# Altium schematic symbol library kmilo17pet-LT_OpAmp_LT2000.SchLib: 1710 symbols (part 6 of 75)
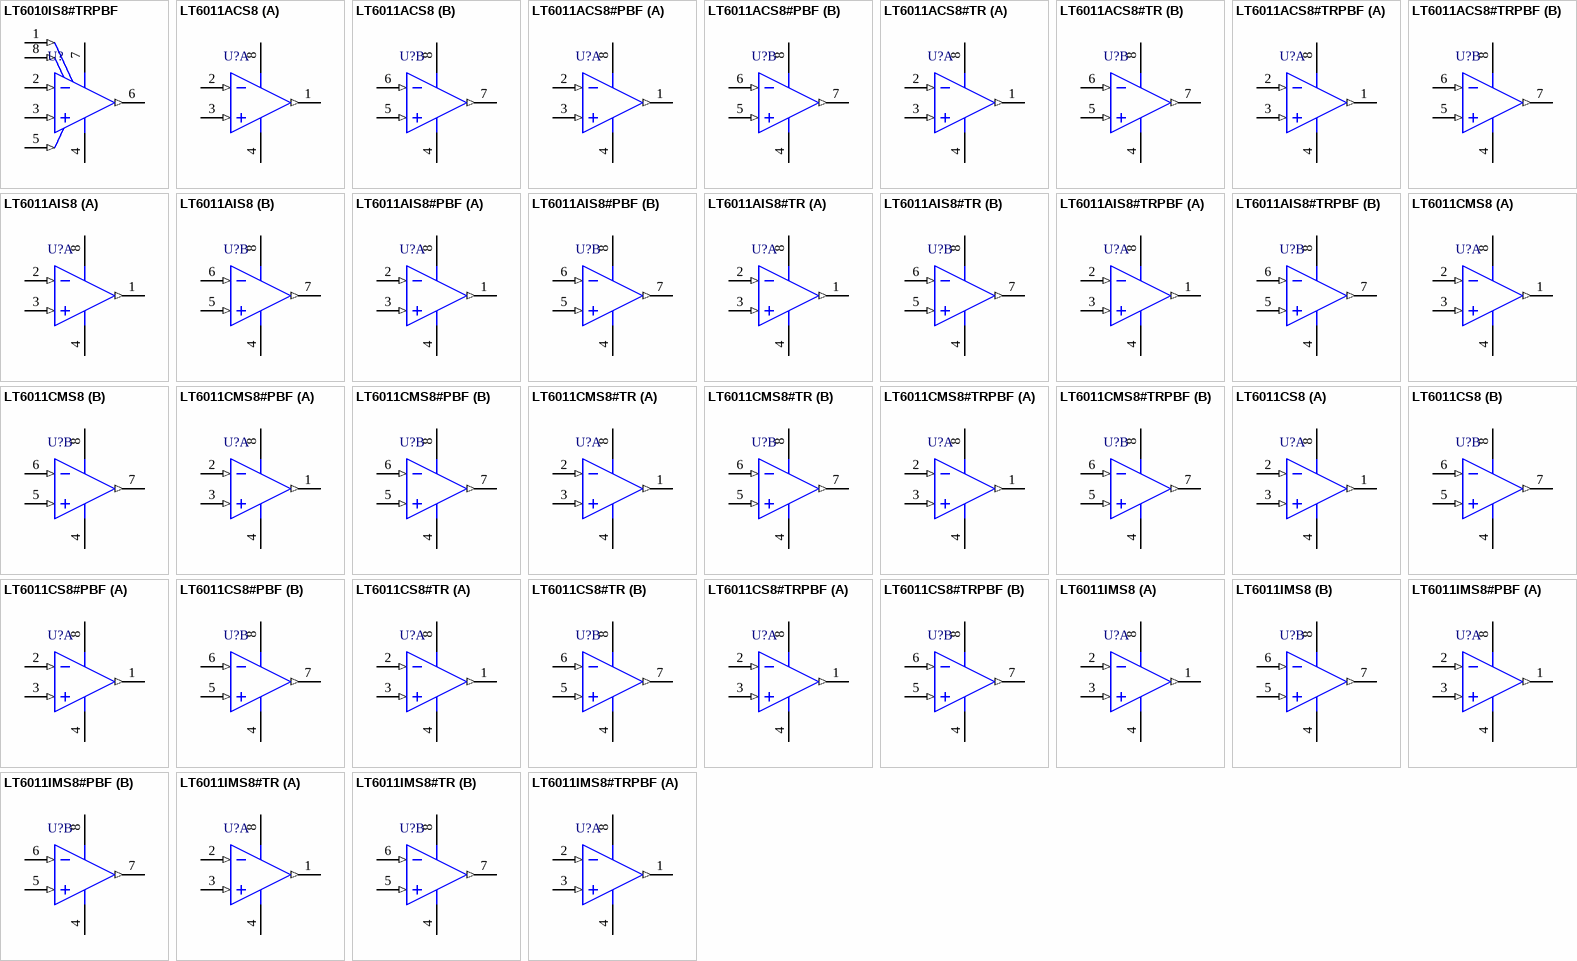
[diagram p85: symbols LT6010IS8#TRPBF to LT6011IMS8#TRPBF]

## LT6011ACS8#TR
designator U?
Dual Channel, Micropower, Precision Operational Amplifier, RRO, 0.33 MHz Typical GBW, 0.09 V/us Typical SR, 2.4 to 40 V, 8-Pin SOIC (S8-8), Commercial, Reel; Linear Technology Part Number: LT6011; Manufacturer: Linear Technology; PartNumber: LT6011ACS8#TR; Channels (#): 2; GBW (MHz) Typical: 0.33; Is (mA) Typical: 0.135; SR (V/us) Typical: 0.09; Vos (mV) Guaranteed: 0.06; Vos (mV) Typical: 0.02; Vs Max (V): 40; Vs Min (V): 2.4; DatasheetVersion: Rev. C; PackageVersion: Rev G; PackageReference: LT-S8-8; PackageDescription: 8-Pin Plastic Small Outline, Body 4.9 x 3.9 mm, Pitch 1.27 mm; Supplier 1: Digi-Key; Supplier Part Number 1: LT6011ACS8#TR-ND; Packing: Reel; Type: VFB; Mounting Technology: Surface Mount; ComponentLink1Description: Manufacturer URL; ComponentLink1URL: http://www.linear.com/; ComponentLink2Description: Datasheet; ComponentLink2URL: http://cds.linear.com/docs/en/datasheet/60112fc.pdf; ComponentLink3Description: Package Specification; ComponentLink3URL: http://cds.linear.com/docs/en/packaging/05081610_G_SO8.pdf
footprint LT-S8-8_N (SOIC, 8-Leads, Body 4.9x3.9mm, Pitch 1.27mm, IPC Medium Density)
footprint LT-S8-8_L (SOIC, 8-Leads, Body 4.9x3.9mm, Pitch 1.27mm, IPC High Density)
footprint LT-S8-8_M (SOIC, 8-Leads, Body 4.9x3.9mm, Pitch 1.27mm, IPC Low Density)
pins on every part: 4 V- (power), 8 V+ (power)
part A pins: 1 OUT A (out), 2 -IN A (in), 3 +IN A (in)
part B pins: 5 +IN B (in), 6 -IN B (in), 7 OUT B (out)

## LT6011ACS8#TRPBF
designator U?
Dual Channel, Micropower, Precision Operational Amplifier, RRO, 0.33 MHz Typical GBW, 0.09 V/us Typical SR, 2.4 to 40 V, 8-Pin SOIC (S8-8), Commercial, Pb-Free, Reel; Linear Technology Part Number: LT6011; Manufacturer: Linear Technology; PartNumber: LT6011ACS8#TRPBF; Channels (#): 2; GBW (MHz) Typical: 0.33; Is (mA) Typical: 0.135; SR (V/us) Typical: 0.09; Vos (mV) Guaranteed: 0.06; Vos (mV) Typical: 0.02; Vs Max (V): 40; Vs Min (V): 2.4; DatasheetVersion: Rev. C; PackageVersion: Rev G; PackageReference: LT-S8-8; PackageDescription: 8-Pin Plastic Small Outline, Body 4.9 x 3.9 mm, Pitch 1.27 mm; Supplier 1: Digi-Key; Supplier Part Number 1: LT6011ACS8#TRPBF-ND; Packing: Reel; RoHS: Pb-Free; Type: VFB; Mounting Technology: Surface Mount; ComponentLink1Description: Manufacturer URL; ComponentLink1URL: http://www.linear.com/; ComponentLink2Description: Datasheet; ComponentLink2URL: http://cds.linear.com/docs/en/datasheet/60112fc.pdf; ComponentLink3Description: Package Specification; ComponentLink3URL: http://cds.linear.com/docs/en/packaging/05081610_G_SO8.pdf
footprint LT-S8-8_N (SOIC, 8-Leads, Body 4.9x3.9mm, Pitch 1.27mm, IPC Medium Density)
footprint LT-S8-8_L (SOIC, 8-Leads, Body 4.9x3.9mm, Pitch 1.27mm, IPC High Density)
footprint LT-S8-8_M (SOIC, 8-Leads, Body 4.9x3.9mm, Pitch 1.27mm, IPC Low Density)
pins on every part: 4 V- (power), 8 V+ (power)
part A pins: 1 OUT A (out), 2 -IN A (in), 3 +IN A (in)
part B pins: 5 +IN B (in), 6 -IN B (in), 7 OUT B (out)

## LT6011AIS8
designator U?
Dual Channel, Micropower, Precision Operational Amplifier, RRO, 0.33 MHz Typical GBW, 0.09 V/us Typical SR, 2.4 to 40 V, 8-Pin SOIC (S8-8), Industrial; Linear Technology Part Number: LT6011; Manufacturer: Linear Technology; PartNumber: LT6011AIS8; Channels (#): 2; GBW (MHz) Typical: 0.33; Is (mA) Typical: 0.135; SR (V/us) Typical: 0.09; Vos (mV) Guaranteed: 0.06; Vos (mV) Typical: 0.02; Vs Max (V): 40; Vs Min (V): 2.4; DatasheetVersion: Rev. C; PackageVersion: Rev G; PackageReference: LT-S8-8; PackageDescription: 8-Pin Plastic Small Outline, Body 4.9 x 3.9 mm, Pitch 1.27 mm; Supplier 1: Digi-Key; Supplier Part Number 1: LT6011AIS8-ND; Type: VFB; Mounting Technology: Surface Mount; ComponentLink1Description: Manufacturer URL; ComponentLink1URL: http://www.linear.com/; ComponentLink2Description: Datasheet; ComponentLink2URL: http://cds.linear.com/docs/en/datasheet/60112fc.pdf; ComponentLink3Description: Package Specification; ComponentLink3URL: http://cds.linear.com/docs/en/packaging/05081610_G_SO8.pdf
footprint LT-S8-8_N (SOIC, 8-Leads, Body 4.9x3.9mm, Pitch 1.27mm, IPC Medium Density)
footprint LT-S8-8_L (SOIC, 8-Leads, Body 4.9x3.9mm, Pitch 1.27mm, IPC High Density)
footprint LT-S8-8_M (SOIC, 8-Leads, Body 4.9x3.9mm, Pitch 1.27mm, IPC Low Density)
pins on every part: 4 V- (power), 8 V+ (power)
part A pins: 1 OUT A (out), 2 -IN A (in), 3 +IN A (in)
part B pins: 5 +IN B (in), 6 -IN B (in), 7 OUT B (out)

## LT6011AIS8#PBF
designator U?
Dual Channel, Micropower, Precision Operational Amplifier, RRO, 0.33 MHz Typical GBW, 0.09 V/us Typical SR, 2.4 to 40 V, 8-Pin SOIC (S8-8), Industrial, Pb-Free; Linear Technology Part Number: LT6011; Manufacturer: Linear Technology; PartNumber: LT6011AIS8#PBF; Channels (#): 2; GBW (MHz) Typical: 0.33; Is (mA) Typical: 0.135; SR (V/us) Typical: 0.09; Vos (mV) Guaranteed: 0.06; Vos (mV) Typical: 0.02; Vs Max (V): 40; Vs Min (V): 2.4; DatasheetVersion: Rev. C; PackageVersion: Rev G; PackageReference: LT-S8-8; PackageDescription: 8-Pin Plastic Small Outline, Body 4.9 x 3.9 mm, Pitch 1.27 mm; Supplier 1: Digi-Key; Supplier Part Number 1: LT6011AIS8#PBF-ND; RoHS: Pb-Free; Type: VFB; Mounting Technology: Surface Mount; ComponentLink1Description: Manufacturer URL; ComponentLink1URL: http://www.linear.com/; ComponentLink2Description: Datasheet; ComponentLink2URL: http://cds.linear.com/docs/en/datasheet/60112fc.pdf; ComponentLink3Description: Package Specification; ComponentLink3URL: http://cds.linear.com/docs/en/packaging/05081610_G_SO8.pdf
footprint LT-S8-8_N (SOIC, 8-Leads, Body 4.9x3.9mm, Pitch 1.27mm, IPC Medium Density)
footprint LT-S8-8_L (SOIC, 8-Leads, Body 4.9x3.9mm, Pitch 1.27mm, IPC High Density)
footprint LT-S8-8_M (SOIC, 8-Leads, Body 4.9x3.9mm, Pitch 1.27mm, IPC Low Density)
pins on every part: 4 V- (power), 8 V+ (power)
part A pins: 1 OUT A (out), 2 -IN A (in), 3 +IN A (in)
part B pins: 5 +IN B (in), 6 -IN B (in), 7 OUT B (out)

## LT6011AIS8#TR
designator U?
Dual Channel, Micropower, Precision Operational Amplifier, RRO, 0.33 MHz Typical GBW, 0.09 V/us Typical SR, 2.4 to 40 V, 8-Pin SOIC (S8-8), Industrial, Reel; Linear Technology Part Number: LT6011; Manufacturer: Linear Technology; PartNumber: LT6011AIS8#TR; Channels (#): 2; GBW (MHz) Typical: 0.33; Is (mA) Typical: 0.135; SR (V/us) Typical: 0.09; Vos (mV) Guaranteed: 0.06; Vos (mV) Typical: 0.02; Vs Max (V): 40; Vs Min (V): 2.4; DatasheetVersion: Rev. C; PackageVersion: Rev G; PackageReference: LT-S8-8; PackageDescription: 8-Pin Plastic Small Outline, Body 4.9 x 3.9 mm, Pitch 1.27 mm; Supplier 1: Digi-Key; Supplier Part Number 1: LT6011AIS8#TR-ND; Packing: Reel; Type: VFB; Mounting Technology: Surface Mount; ComponentLink1Description: Manufacturer URL; ComponentLink1URL: http://www.linear.com/; ComponentLink2Description: Datasheet; ComponentLink2URL: http://cds.linear.com/docs/en/datasheet/60112fc.pdf; ComponentLink3Description: Package Specification; ComponentLink3URL: http://cds.linear.com/docs/en/packaging/05081610_G_SO8.pdf
footprint LT-S8-8_N (SOIC, 8-Leads, Body 4.9x3.9mm, Pitch 1.27mm, IPC Medium Density)
footprint LT-S8-8_L (SOIC, 8-Leads, Body 4.9x3.9mm, Pitch 1.27mm, IPC High Density)
footprint LT-S8-8_M (SOIC, 8-Leads, Body 4.9x3.9mm, Pitch 1.27mm, IPC Low Density)
pins on every part: 4 V- (power), 8 V+ (power)
part A pins: 1 OUT A (out), 2 -IN A (in), 3 +IN A (in)
part B pins: 5 +IN B (in), 6 -IN B (in), 7 OUT B (out)

## LT6011AIS8#TRPBF
designator U?
Dual Channel, Micropower, Precision Operational Amplifier, RRO, 0.33 MHz Typical GBW, 0.09 V/us Typical SR, 2.4 to 40 V, 8-Pin SOIC (S8-8), Industrial, Pb-Free, Reel; Linear Technology Part Number: LT6011; Manufacturer: Linear Technology; PartNumber: LT6011AIS8#TRPBF; Channels (#): 2; GBW (MHz) Typical: 0.33; Is (mA) Typical: 0.135; SR (V/us) Typical: 0.09; Vos (mV) Guaranteed: 0.06; Vos (mV) Typical: 0.02; Vs Max (V): 40; Vs Min (V): 2.4; DatasheetVersion: Rev. C; PackageVersion: Rev G; PackageReference: LT-S8-8; PackageDescription: 8-Pin Plastic Small Outline, Body 4.9 x 3.9 mm, Pitch 1.27 mm; Supplier 1: Digi-Key; Supplier Part Number 1: LT6011AIS8#TRPBF-ND; Packing: Reel; RoHS: Pb-Free; Type: VFB; Mounting Technology: Surface Mount; ComponentLink1Description: Manufacturer URL; ComponentLink1URL: http://www.linear.com/; ComponentLink2Description: Datasheet; ComponentLink2URL: http://cds.linear.com/docs/en/datasheet/60112fc.pdf; ComponentLink3Description: Package Specification; ComponentLink3URL: http://cds.linear.com/docs/en/packaging/05081610_G_SO8.pdf
footprint LT-S8-8_N (SOIC, 8-Leads, Body 4.9x3.9mm, Pitch 1.27mm, IPC Medium Density)
footprint LT-S8-8_L (SOIC, 8-Leads, Body 4.9x3.9mm, Pitch 1.27mm, IPC High Density)
footprint LT-S8-8_M (SOIC, 8-Leads, Body 4.9x3.9mm, Pitch 1.27mm, IPC Low Density)
pins on every part: 4 V- (power), 8 V+ (power)
part A pins: 1 OUT A (out), 2 -IN A (in), 3 +IN A (in)
part B pins: 5 +IN B (in), 6 -IN B (in), 7 OUT B (out)

## LT6011CMS8
designator U?
Dual Channel, Micropower, Precision Operational Amplifier, RRO, 0.33 MHz Typical GBW, 0.09 V/us Typical SR, 2.4 to 40 V, 8-Pin SOP (MS8-8), Commercial; Linear Technology Part Number: LT6011; Manufacturer: Linear Technology; PartNumber: LT6011CMS8; Channels (#): 2; GBW (MHz) Typical: 0.33; Is (mA) Typical: 0.135; SR (V/us) Typical: 0.09; Vos (mV) Guaranteed: 0.06; Vos (mV) Typical: 0.02; Vs Max (V): 40; Vs Min (V): 2.4; DatasheetVersion: Rev. C; PackageVersion: Rev G; PackageReference: LT-MS8-8; PackageDescription: 8-Lead Plastic Small Outline, Body 3.9 x 4.9 mm, Pitch 1.27 mm; Supplier 1: Newark; Supplier Part Number 1: 57M8996; Type: VFB; Mounting Technology: Surface Mount; ComponentLink1Description: Manufacturer URL; ComponentLink1URL: http://www.linear.com/; ComponentLink2Description: Datasheet; ComponentLink2URL: http://cds.linear.com/docs/en/datasheet/60112fc.pdf; ComponentLink3Description: Package Specification; ComponentLink3URL: http://cds.linear.com/docs/en/packaging/05081610_G_SO8.pdf
footprint LT-MS8-8_N (SOP, 8-Leads, Body 3x3mm, Pitch 0.65mm, IPC Medium Density)
footprint LT-MS8-8_L (SOP, 8-Leads, Body 3x3mm, Pitch 0.65mm, IPC High Density)
footprint LT-MS8-8_M (SOP, 8-Leads, Body 3x3mm, Pitch 0.65mm, IPC Low Density)
pins on every part: 4 V- (power), 8 V+ (power)
part A pins: 1 OUT A (out), 2 -IN A (in), 3 +IN A (in)
part B pins: 5 +IN B (in), 6 -IN B (in), 7 OUT B (out)

## LT6011CMS8#PBF
designator U?
Dual Channel, Micropower, Precision Operational Amplifier, RRO, 0.33 MHz Typical GBW, 0.09 V/us Typical SR, 2.4 to 40 V, 8-Pin SOP (MS8-8), Commercial, Pb-Free; Linear Technology Part Number: LT6011; Manufacturer: Linear Technology; PartNumber: LT6011CMS8#PBF; Channels (#): 2; GBW (MHz) Typical: 0.33; Is (mA) Typical: 0.135; SR (V/us) Typical: 0.09; Vos (mV) Guaranteed: 0.06; Vos (mV) Typical: 0.02; Vs Max (V): 40; Vs Min (V): 2.4; DatasheetVersion: Rev. C; PackageVersion: Rev G; PackageReference: LT-MS8-8; PackageDescription: 8-Lead Plastic Small Outline, Body 3.9 x 4.9 mm, Pitch 1.27 mm; Supplier 1: Digi-Key; Supplier Part Number 1: LT6011CMS8#PBF-ND; Supplier 2: Farnell; Supplier Part Number 2: 1330741; Supplier 3: Newark; Supplier Part Number 3: 57M8997; RoHS: Pb-Free; Type: VFB; Mounting Technology: Surface Mount; ComponentLink1Description: Manufacturer URL; ComponentLink1URL: http://www.linear.com/; ComponentLink2Description: Datasheet; ComponentLink2URL: http://cds.linear.com/docs/en/datasheet/60112fc.pdf; ComponentLink3Description: Package Specification; ComponentLink3URL: http://cds.linear.com/docs/en/packaging/05081610_G_SO8.pdf
footprint LT-MS8-8_N (SOP, 8-Leads, Body 3x3mm, Pitch 0.65mm, IPC Medium Density)
footprint LT-MS8-8_L (SOP, 8-Leads, Body 3x3mm, Pitch 0.65mm, IPC High Density)
footprint LT-MS8-8_M (SOP, 8-Leads, Body 3x3mm, Pitch 0.65mm, IPC Low Density)
pins on every part: 4 V- (power), 8 V+ (power)
part A pins: 1 OUT A (out), 2 -IN A (in), 3 +IN A (in)
part B pins: 5 +IN B (in), 6 -IN B (in), 7 OUT B (out)

## LT6011CMS8#TR
designator U?
Dual Channel, Micropower, Precision Operational Amplifier, RRO, 0.33 MHz Typical GBW, 0.09 V/us Typical SR, 2.4 to 40 V, 8-Pin SOP (MS8-8), Commercial, Reel; Linear Technology Part Number: LT6011; Manufacturer: Linear Technology; PartNumber: LT6011CMS8#TR; Channels (#): 2; GBW (MHz) Typical: 0.33; Is (mA) Typical: 0.135; SR (V/us) Typical: 0.09; Vos (mV) Guaranteed: 0.06; Vos (mV) Typical: 0.02; Vs Max (V): 40; Vs Min (V): 2.4; DatasheetVersion: Rev. C; PackageVersion: Rev G; PackageReference: LT-MS8-8; PackageDescription: 8-Lead Plastic Small Outline, Body 3.9 x 4.9 mm, Pitch 1.27 mm; Packing: Reel; Type: VFB; Mounting Technology: Surface Mount; ComponentLink1Description: Manufacturer URL; ComponentLink1URL: http://www.linear.com/; ComponentLink2Description: Datasheet; ComponentLink2URL: http://cds.linear.com/docs/en/datasheet/60112fc.pdf; ComponentLink3Description: Package Specification; ComponentLink3URL: http://cds.linear.com/docs/en/packaging/05081610_G_SO8.pdf
footprint LT-MS8-8_N (SOP, 8-Leads, Body 3x3mm, Pitch 0.65mm, IPC Medium Density)
footprint LT-MS8-8_L (SOP, 8-Leads, Body 3x3mm, Pitch 0.65mm, IPC High Density)
footprint LT-MS8-8_M (SOP, 8-Leads, Body 3x3mm, Pitch 0.65mm, IPC Low Density)
pins on every part: 4 V- (power), 8 V+ (power)
part A pins: 1 OUT A (out), 2 -IN A (in), 3 +IN A (in)
part B pins: 5 +IN B (in), 6 -IN B (in), 7 OUT B (out)

## LT6011CMS8#TRPBF
designator U?
Dual Channel, Micropower, Precision Operational Amplifier, RRO, 0.33 MHz Typical GBW, 0.09 V/us Typical SR, 2.4 to 40 V, 8-Pin SOP (MS8-8), Commercial, Pb-Free, Reel; Linear Technology Part Number: LT6011; Manufacturer: Linear Technology; PartNumber: LT6011CMS8#TRPBF; Channels (#): 2; GBW (MHz) Typical: 0.33; Is (mA) Typical: 0.135; SR (V/us) Typical: 0.09; Vos (mV) Guaranteed: 0.06; Vos (mV) Typical: 0.02; Vs Max (V): 40; Vs Min (V): 2.4; DatasheetVersion: Rev. C; PackageVersion: Rev G; PackageReference: LT-MS8-8; PackageDescription: 8-Lead Plastic Small Outline, Body 3.9 x 4.9 mm, Pitch 1.27 mm; Supplier 1: Digi-Key; Supplier Part Number 1: LT6011CMS8#TRPBF-ND; Packing: Reel; RoHS: Pb-Free; Type: VFB; Mounting Technology: Surface Mount; ComponentLink1Description: Manufacturer URL; ComponentLink1URL: http://www.linear.com/; ComponentLink2Description: Datasheet; ComponentLink2URL: http://cds.linear.com/docs/en/datasheet/60112fc.pdf; ComponentLink3Description: Package Specification; ComponentLink3URL: http://cds.linear.com/docs/en/packaging/05081610_G_SO8.pdf
footprint LT-MS8-8_N (SOP, 8-Leads, Body 3x3mm, Pitch 0.65mm, IPC Medium Density)
footprint LT-MS8-8_L (SOP, 8-Leads, Body 3x3mm, Pitch 0.65mm, IPC High Density)
footprint LT-MS8-8_M (SOP, 8-Leads, Body 3x3mm, Pitch 0.65mm, IPC Low Density)
pins on every part: 4 V- (power), 8 V+ (power)
part A pins: 1 OUT A (out), 2 -IN A (in), 3 +IN A (in)
part B pins: 5 +IN B (in), 6 -IN B (in), 7 OUT B (out)

## LT6011CS8
designator U?
Dual Channel, Micropower, Precision Operational Amplifier, RRO, 0.33 MHz Typical GBW, 0.09 V/us Typical SR, 2.4 to 40 V, 8-Pin SOIC (S8-8), Commercial; Linear Technology Part Number: LT6011; Manufacturer: Linear Technology; PartNumber: LT6011CS8; Channels (#): 2; GBW (MHz) Typical: 0.33; Is (mA) Typical: 0.135; SR (V/us) Typical: 0.09; Vos (mV) Guaranteed: 0.06; Vos (mV) Typical: 0.02; Vs Max (V): 40; Vs Min (V): 2.4; DatasheetVersion: Rev. C; PackageVersion: Rev G; PackageReference: LT-S8-8; PackageDescription: 8-Pin Plastic Small Outline, Body 4.9 x 3.9 mm, Pitch 1.27 mm; Supplier 1: Digi-Key; Supplier Part Number 1: LT6011CS8-ND; Type: VFB; Mounting Technology: Surface Mount; ComponentLink1Description: Manufacturer URL; ComponentLink1URL: http://www.linear.com/; ComponentLink2Description: Datasheet; ComponentLink2URL: http://cds.linear.com/docs/en/datasheet/60112fc.pdf; ComponentLink3Description: Package Specification; ComponentLink3URL: http://cds.linear.com/docs/en/packaging/05081610_G_SO8.pdf
footprint LT-S8-8_N (SOIC, 8-Leads, Body 4.9x3.9mm, Pitch 1.27mm, IPC Medium Density)
footprint LT-S8-8_L (SOIC, 8-Leads, Body 4.9x3.9mm, Pitch 1.27mm, IPC High Density)
footprint LT-S8-8_M (SOIC, 8-Leads, Body 4.9x3.9mm, Pitch 1.27mm, IPC Low Density)
pins on every part: 4 V- (power), 8 V+ (power)
part A pins: 1 OUT A (out), 2 -IN A (in), 3 +IN A (in)
part B pins: 5 +IN B (in), 6 -IN B (in), 7 OUT B (out)

## LT6011CS8#PBF
designator U?
Dual Channel, Micropower, Precision Operational Amplifier, RRO, 0.33 MHz Typical GBW, 0.09 V/us Typical SR, 2.4 to 40 V, 8-Pin SOIC (S8-8), Commercial, Pb-Free; Linear Technology Part Number: LT6011; Manufacturer: Linear Technology; PartNumber: LT6011CS8#PBF; Channels (#): 2; GBW (MHz) Typical: 0.33; Is (mA) Typical: 0.135; SR (V/us) Typical: 0.09; Vos (mV) Guaranteed: 0.06; Vos (mV) Typical: 0.02; Vs Max (V): 40; Vs Min (V): 2.4; DatasheetVersion: Rev. C; PackageVersion: Rev G; PackageReference: LT-S8-8; PackageDescription: 8-Pin Plastic Small Outline, Body 4.9 x 3.9 mm, Pitch 1.27 mm; Supplier 1: Digi-Key; Supplier Part Number 1: LT6011CS8#PBF-ND; Supplier 2: Farnell; Supplier Part Number 2: 1663583; Supplier 3: Newark; Supplier Part Number 3: 57M9001; RoHS: Pb-Free; Type: VFB; Mounting Technology: Surface Mount; ComponentLink1Description: Manufacturer URL; ComponentLink1URL: http://www.linear.com/; ComponentLink2Description: Datasheet; ComponentLink2URL: http://cds.linear.com/docs/en/datasheet/60112fc.pdf; ComponentLink3Description: Package Specification; ComponentLink3URL: http://cds.linear.com/docs/en/packaging/05081610_G_SO8.pdf
footprint LT-S8-8_N (SOIC, 8-Leads, Body 4.9x3.9mm, Pitch 1.27mm, IPC Medium Density)
footprint LT-S8-8_L (SOIC, 8-Leads, Body 4.9x3.9mm, Pitch 1.27mm, IPC High Density)
footprint LT-S8-8_M (SOIC, 8-Leads, Body 4.9x3.9mm, Pitch 1.27mm, IPC Low Density)
pins on every part: 4 V- (power), 8 V+ (power)
part A pins: 1 OUT A (out), 2 -IN A (in), 3 +IN A (in)
part B pins: 5 +IN B (in), 6 -IN B (in), 7 OUT B (out)

## LT6011CS8#TR
designator U?
Dual Channel, Micropower, Precision Operational Amplifier, RRO, 0.33 MHz Typical GBW, 0.09 V/us Typical SR, 2.4 to 40 V, 8-Pin SOIC (S8-8), Commercial, Reel; Linear Technology Part Number: LT6011; Manufacturer: Linear Technology; PartNumber: LT6011CS8#TR; Channels (#): 2; GBW (MHz) Typical: 0.33; Is (mA) Typical: 0.135; SR (V/us) Typical: 0.09; Vos (mV) Guaranteed: 0.06; Vos (mV) Typical: 0.02; Vs Max (V): 40; Vs Min (V): 2.4; DatasheetVersion: Rev. C; PackageVersion: Rev G; PackageReference: LT-S8-8; PackageDescription: 8-Pin Plastic Small Outline, Body 4.9 x 3.9 mm, Pitch 1.27 mm; Supplier 1: Digi-Key; Supplier Part Number 1: LT6011CS8#TR-ND; Packing: Reel; Type: VFB; Mounting Technology: Surface Mount; ComponentLink1Description: Manufacturer URL; ComponentLink1URL: http://www.linear.com/; ComponentLink2Description: Datasheet; ComponentLink2URL: http://cds.linear.com/docs/en/datasheet/60112fc.pdf; ComponentLink3Description: Package Specification; ComponentLink3URL: http://cds.linear.com/docs/en/packaging/05081610_G_SO8.pdf
footprint LT-S8-8_N (SOIC, 8-Leads, Body 4.9x3.9mm, Pitch 1.27mm, IPC Medium Density)
footprint LT-S8-8_L (SOIC, 8-Leads, Body 4.9x3.9mm, Pitch 1.27mm, IPC High Density)
footprint LT-S8-8_M (SOIC, 8-Leads, Body 4.9x3.9mm, Pitch 1.27mm, IPC Low Density)
pins on every part: 4 V- (power), 8 V+ (power)
part A pins: 1 OUT A (out), 2 -IN A (in), 3 +IN A (in)
part B pins: 5 +IN B (in), 6 -IN B (in), 7 OUT B (out)

## LT6011CS8#TRPBF
designator U?
Dual Channel, Micropower, Precision Operational Amplifier, RRO, 0.33 MHz Typical GBW, 0.09 V/us Typical SR, 2.4 to 40 V, 8-Pin SOIC (S8-8), Commercial, Pb-Free, Reel; Linear Technology Part Number: LT6011; Manufacturer: Linear Technology; PartNumber: LT6011CS8#TRPBF; Channels (#): 2; GBW (MHz) Typical: 0.33; Is (mA) Typical: 0.135; SR (V/us) Typical: 0.09; Vos (mV) Guaranteed: 0.06; Vos (mV) Typical: 0.02; Vs Max (V): 40; Vs Min (V): 2.4; DatasheetVersion: Rev. C; PackageVersion: Rev G; PackageReference: LT-S8-8; PackageDescription: 8-Pin Plastic Small Outline, Body 4.9 x 3.9 mm, Pitch 1.27 mm; Supplier 1: Digi-Key; Supplier Part Number 1: LT6011CS8#TRPBF-ND; Packing: Reel; RoHS: Pb-Free; Type: VFB; Mounting Technology: Surface Mount; ComponentLink1Description: Manufacturer URL; ComponentLink1URL: http://www.linear.com/; ComponentLink2Description: Datasheet; ComponentLink2URL: http://cds.linear.com/docs/en/datasheet/60112fc.pdf; ComponentLink3Description: Package Specification; ComponentLink3URL: http://cds.linear.com/docs/en/packaging/05081610_G_SO8.pdf
footprint LT-S8-8_N (SOIC, 8-Leads, Body 4.9x3.9mm, Pitch 1.27mm, IPC Medium Density)
footprint LT-S8-8_L (SOIC, 8-Leads, Body 4.9x3.9mm, Pitch 1.27mm, IPC High Density)
footprint LT-S8-8_M (SOIC, 8-Leads, Body 4.9x3.9mm, Pitch 1.27mm, IPC Low Density)
pins on every part: 4 V- (power), 8 V+ (power)
part A pins: 1 OUT A (out), 2 -IN A (in), 3 +IN A (in)
part B pins: 5 +IN B (in), 6 -IN B (in), 7 OUT B (out)

## LT6011IMS8
designator U?
Dual Channel, Micropower, Precision Operational Amplifier, RRO, 0.33 MHz Typical GBW, 0.09 V/us Typical SR, 2.4 to 40 V, 8-Pin SOP (MS8-8), Industrial; Linear Technology Part Number: LT6011; Manufacturer: Linear Technology; PartNumber: LT6011IMS8; Channels (#): 2; GBW (MHz) Typical: 0.33; Is (mA) Typical: 0.135; SR (V/us) Typical: 0.09; Vos (mV) Guaranteed: 0.06; Vos (mV) Typical: 0.02; Vs Max (V): 40; Vs Min (V): 2.4; DatasheetVersion: Rev. C; PackageVersion: Rev G; PackageReference: LT-MS8-8; PackageDescription: 8-Lead Plastic Small Outline, Body 3.9 x 4.9 mm, Pitch 1.27 mm; Type: VFB; Mounting Technology: Surface Mount; ComponentLink1Description: Manufacturer URL; ComponentLink1URL: http://www.linear.com/; ComponentLink2Description: Datasheet; ComponentLink2URL: http://cds.linear.com/docs/en/datasheet/60112fc.pdf; ComponentLink3Description: Package Specification; ComponentLink3URL: http://cds.linear.com/docs/en/packaging/05081610_G_SO8.pdf
footprint LT-MS8-8_N (SOP, 8-Leads, Body 3x3mm, Pitch 0.65mm, IPC Medium Density)
footprint LT-MS8-8_L (SOP, 8-Leads, Body 3x3mm, Pitch 0.65mm, IPC High Density)
footprint LT-MS8-8_M (SOP, 8-Leads, Body 3x3mm, Pitch 0.65mm, IPC Low Density)
pins on every part: 4 V- (power), 8 V+ (power)
part A pins: 1 OUT A (out), 2 -IN A (in), 3 +IN A (in)
part B pins: 5 +IN B (in), 6 -IN B (in), 7 OUT B (out)

## LT6011IMS8#PBF
designator U?
Dual Channel, Micropower, Precision Operational Amplifier, RRO, 0.33 MHz Typical GBW, 0.09 V/us Typical SR, 2.4 to 40 V, 8-Pin SOP (MS8-8), Industrial, Pb-Free; Linear Technology Part Number: LT6011; Manufacturer: Linear Technology; PartNumber: LT6011IMS8#PBF; Channels (#): 2; GBW (MHz) Typical: 0.33; Is (mA) Typical: 0.135; SR (V/us) Typical: 0.09; Vos (mV) Guaranteed: 0.06; Vos (mV) Typical: 0.02; Vs Max (V): 40; Vs Min (V): 2.4; DatasheetVersion: Rev. C; PackageVersion: Rev G; PackageReference: LT-MS8-8; PackageDescription: 8-Lead Plastic Small Outline, Body 3.9 x 4.9 mm, Pitch 1.27 mm; Supplier 1: Digi-Key; Supplier Part Number 1: LT6011IMS8#PBF-ND; Supplier 2: Farnell; Supplier Part Number 2: 2294697; Supplier 3: Newark; Supplier Part Number 3: 57M9009; RoHS: Pb-Free; Type: VFB; Mounting Technology: Surface Mount; ComponentLink1Description: Manufacturer URL; ComponentLink1URL: http://www.linear.com/; ComponentLink2Description: Datasheet; ComponentLink2URL: http://cds.linear.com/docs/en/datasheet/60112fc.pdf; ComponentLink3Description: Package Specification; ComponentLink3URL: http://cds.linear.com/docs/en/packaging/05081610_G_SO8.pdf
footprint LT-MS8-8_N (SOP, 8-Leads, Body 3x3mm, Pitch 0.65mm, IPC Medium Density)
footprint LT-MS8-8_L (SOP, 8-Leads, Body 3x3mm, Pitch 0.65mm, IPC High Density)
footprint LT-MS8-8_M (SOP, 8-Leads, Body 3x3mm, Pitch 0.65mm, IPC Low Density)
pins on every part: 4 V- (power), 8 V+ (power)
part A pins: 1 OUT A (out), 2 -IN A (in), 3 +IN A (in)
part B pins: 5 +IN B (in), 6 -IN B (in), 7 OUT B (out)

## LT6011IMS8#TR
designator U?
Dual Channel, Micropower, Precision Operational Amplifier, RRO, 0.33 MHz Typical GBW, 0.09 V/us Typical SR, 2.4 to 40 V, 8-Pin SOP (MS8-8), Industrial, Reel; Linear Technology Part Number: LT6011; Manufacturer: Linear Technology; PartNumber: LT6011IMS8#TR; Channels (#): 2; GBW (MHz) Typical: 0.33; Is (mA) Typical: 0.135; SR (V/us) Typical: 0.09; Vos (mV) Guaranteed: 0.06; Vos (mV) Typical: 0.02; Vs Max (V): 40; Vs Min (V): 2.4; DatasheetVersion: Rev. C; PackageVersion: Rev G; PackageReference: LT-MS8-8; PackageDescription: 8-Lead Plastic Small Outline, Body 3.9 x 4.9 mm, Pitch 1.27 mm; Packing: Reel; Type: VFB; Mounting Technology: Surface Mount; ComponentLink1Description: Manufacturer URL; ComponentLink1URL: http://www.linear.com/; ComponentLink2Description: Datasheet; ComponentLink2URL: http://cds.linear.com/docs/en/datasheet/60112fc.pdf; ComponentLink3Description: Package Specification; ComponentLink3URL: http://cds.linear.com/docs/en/packaging/05081610_G_SO8.pdf
footprint LT-MS8-8_N (SOP, 8-Leads, Body 3x3mm, Pitch 0.65mm, IPC Medium Density)
footprint LT-MS8-8_L (SOP, 8-Leads, Body 3x3mm, Pitch 0.65mm, IPC High Density)
footprint LT-MS8-8_M (SOP, 8-Leads, Body 3x3mm, Pitch 0.65mm, IPC Low Density)
pins on every part: 4 V- (power), 8 V+ (power)
part A pins: 1 OUT A (out), 2 -IN A (in), 3 +IN A (in)
part B pins: 5 +IN B (in), 6 -IN B (in), 7 OUT B (out)

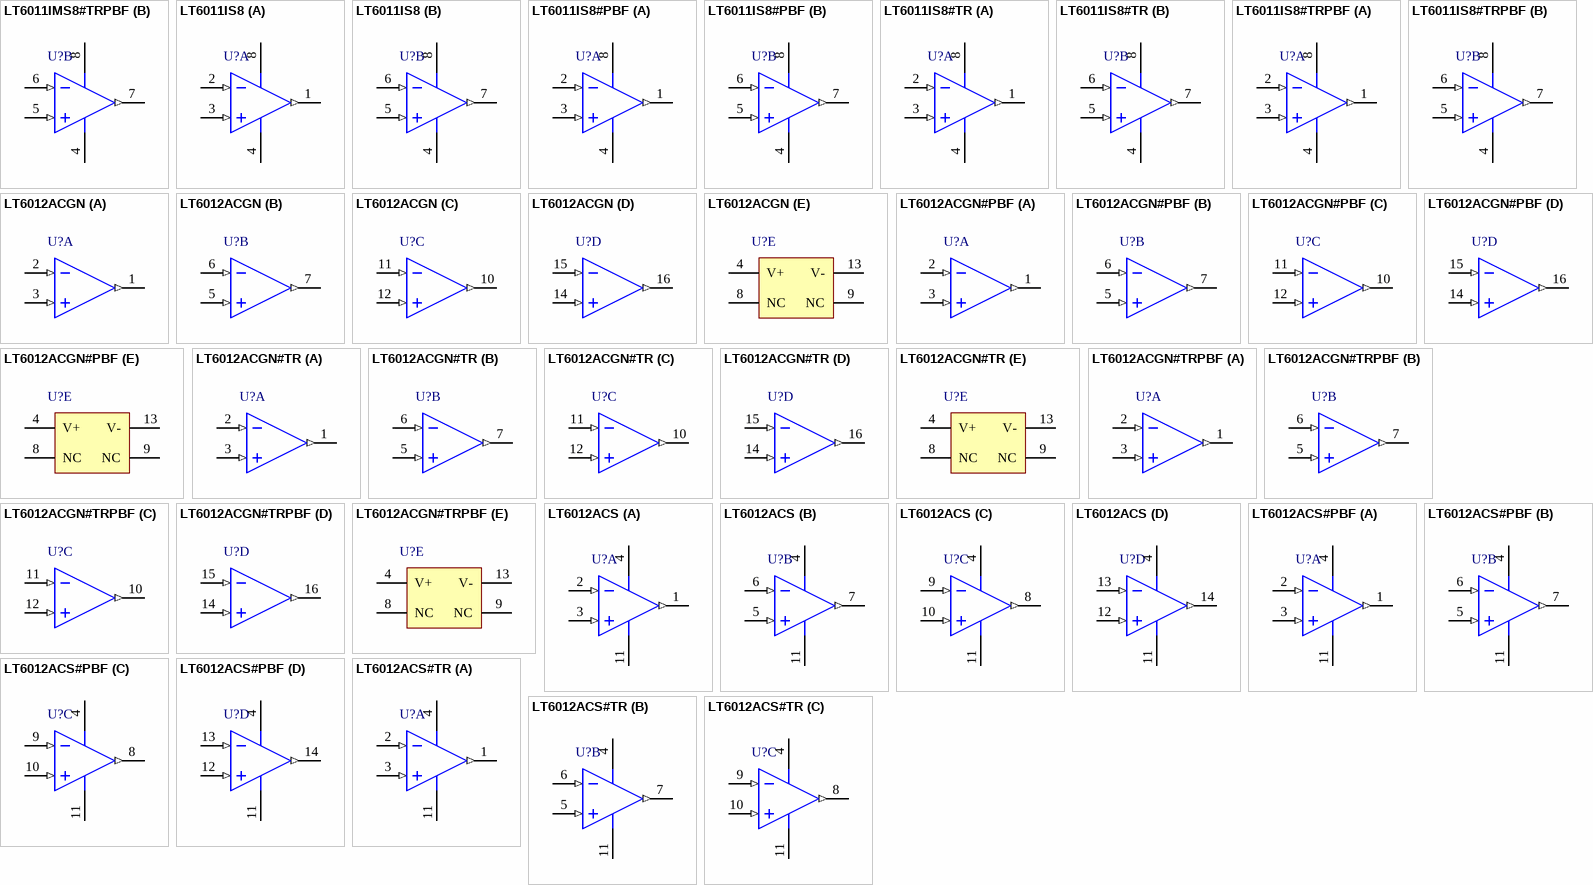
[diagram p10: symbols LT6011IMS8#TRPBF to LT6012ACS#TR]

## LT6011IMS8#TRPBF
designator U?
Dual Channel, Micropower, Precision Operational Amplifier, RRO, 0.33 MHz Typical GBW, 0.09 V/us Typical SR, 2.4 to 40 V, 8-Pin SOP (MS8-8), Industrial, Pb-Free, Reel; Linear Technology Part Number: LT6011; Manufacturer: Linear Technology; PartNumber: LT6011IMS8#TRPBF; Channels (#): 2; GBW (MHz) Typical: 0.33; Is (mA) Typical: 0.135; SR (V/us) Typical: 0.09; Vos (mV) Guaranteed: 0.06; Vos (mV) Typical: 0.02; Vs Max (V): 40; Vs Min (V): 2.4; DatasheetVersion: Rev. C; PackageVersion: Rev G; PackageReference: LT-MS8-8; PackageDescription: 8-Lead Plastic Small Outline, Body 3.9 x 4.9 mm, Pitch 1.27 mm; Supplier 1: Digi-Key; Supplier Part Number 1: LT6011IMS8#TRPBF-ND; Packing: Reel; RoHS: Pb-Free; Type: VFB; Mounting Technology: Surface Mount; ComponentLink1Description: Manufacturer URL; ComponentLink1URL: http://www.linear.com/; ComponentLink2Description: Datasheet; ComponentLink2URL: http://cds.linear.com/docs/en/datasheet/60112fc.pdf; ComponentLink3Description: Package Specification; ComponentLink3URL: http://cds.linear.com/docs/en/packaging/05081610_G_SO8.pdf
footprint LT-MS8-8_N (SOP, 8-Leads, Body 3x3mm, Pitch 0.65mm, IPC Medium Density)
footprint LT-MS8-8_L (SOP, 8-Leads, Body 3x3mm, Pitch 0.65mm, IPC High Density)
footprint LT-MS8-8_M (SOP, 8-Leads, Body 3x3mm, Pitch 0.65mm, IPC Low Density)
pins on every part: 4 V- (power), 8 V+ (power)
part A pins: 1 OUT A (out), 2 -IN A (in), 3 +IN A (in)
part B pins: 5 +IN B (in), 6 -IN B (in), 7 OUT B (out)

## LT6011IS8
designator U?
Dual Channel, Micropower, Precision Operational Amplifier, RRO, 0.33 MHz Typical GBW, 0.09 V/us Typical SR, 2.4 to 40 V, 8-Pin SOIC (S8-8), Industrial; Linear Technology Part Number: LT6011; Manufacturer: Linear Technology; PartNumber: LT6011IS8; Channels (#): 2; GBW (MHz) Typical: 0.33; Is (mA) Typical: 0.135; SR (V/us) Typical: 0.09; Vos (mV) Guaranteed: 0.06; Vos (mV) Typical: 0.02; Vs Max (V): 40; Vs Min (V): 2.4; DatasheetVersion: Rev. C; PackageVersion: Rev G; PackageReference: LT-S8-8; PackageDescription: 8-Pin Plastic Small Outline, Body 4.9 x 3.9 mm, Pitch 1.27 mm; Supplier 1: Digi-Key; Supplier Part Number 1: LT6011IS8-ND; Type: VFB; Mounting Technology: Surface Mount; ComponentLink1Description: Manufacturer URL; ComponentLink1URL: http://www.linear.com/; ComponentLink2Description: Datasheet; ComponentLink2URL: http://cds.linear.com/docs/en/datasheet/60112fc.pdf; ComponentLink3Description: Package Specification; ComponentLink3URL: http://cds.linear.com/docs/en/packaging/05081610_G_SO8.pdf
footprint LT-S8-8_N (SOIC, 8-Leads, Body 4.9x3.9mm, Pitch 1.27mm, IPC Medium Density)
footprint LT-S8-8_L (SOIC, 8-Leads, Body 4.9x3.9mm, Pitch 1.27mm, IPC High Density)
footprint LT-S8-8_M (SOIC, 8-Leads, Body 4.9x3.9mm, Pitch 1.27mm, IPC Low Density)
pins on every part: 4 V- (power), 8 V+ (power)
part A pins: 1 OUT A (out), 2 -IN A (in), 3 +IN A (in)
part B pins: 5 +IN B (in), 6 -IN B (in), 7 OUT B (out)

## LT6011IS8#PBF
designator U?
Dual Channel, Micropower, Precision Operational Amplifier, RRO, 0.33 MHz Typical GBW, 0.09 V/us Typical SR, 2.4 to 40 V, 8-Pin SOIC (S8-8), Industrial, Pb-Free; Linear Technology Part Number: LT6011; Manufacturer: Linear Technology; PartNumber: LT6011IS8#PBF; Channels (#): 2; GBW (MHz) Typical: 0.33; Is (mA) Typical: 0.135; SR (V/us) Typical: 0.09; Vos (mV) Guaranteed: 0.06; Vos (mV) Typical: 0.02; Vs Max (V): 40; Vs Min (V): 2.4; DatasheetVersion: Rev. C; PackageVersion: Rev G; PackageReference: LT-S8-8; PackageDescription: 8-Pin Plastic Small Outline, Body 4.9 x 3.9 mm, Pitch 1.27 mm; Supplier 1: Digi-Key; Supplier Part Number 1: LT6011IS8#PBF-ND; Supplier 2: Newark; Supplier Part Number 2: 57M9013; RoHS: Pb-Free; Type: VFB; Mounting Technology: Surface Mount; ComponentLink1Description: Manufacturer URL; ComponentLink1URL: http://www.linear.com/; ComponentLink2Description: Datasheet; ComponentLink2URL: http://cds.linear.com/docs/en/datasheet/60112fc.pdf; ComponentLink3Description: Package Specification; ComponentLink3URL: http://cds.linear.com/docs/en/packaging/05081610_G_SO8.pdf
footprint LT-S8-8_N (SOIC, 8-Leads, Body 4.9x3.9mm, Pitch 1.27mm, IPC Medium Density)
footprint LT-S8-8_L (SOIC, 8-Leads, Body 4.9x3.9mm, Pitch 1.27mm, IPC High Density)
footprint LT-S8-8_M (SOIC, 8-Leads, Body 4.9x3.9mm, Pitch 1.27mm, IPC Low Density)
pins on every part: 4 V- (power), 8 V+ (power)
part A pins: 1 OUT A (out), 2 -IN A (in), 3 +IN A (in)
part B pins: 5 +IN B (in), 6 -IN B (in), 7 OUT B (out)

## LT6011IS8#TR
designator U?
Dual Channel, Micropower, Precision Operational Amplifier, RRO, 0.33 MHz Typical GBW, 0.09 V/us Typical SR, 2.4 to 40 V, 8-Pin SOIC (S8-8), Industrial, Reel; Linear Technology Part Number: LT6011; Manufacturer: Linear Technology; PartNumber: LT6011IS8#TR; Channels (#): 2; GBW (MHz) Typical: 0.33; Is (mA) Typical: 0.135; SR (V/us) Typical: 0.09; Vos (mV) Guaranteed: 0.06; Vos (mV) Typical: 0.02; Vs Max (V): 40; Vs Min (V): 2.4; DatasheetVersion: Rev. C; PackageVersion: Rev G; PackageReference: LT-S8-8; PackageDescription: 8-Pin Plastic Small Outline, Body 4.9 x 3.9 mm, Pitch 1.27 mm; Supplier 1: Digi-Key; Supplier Part Number 1: LT6011IS8#TR-ND; Packing: Reel; Type: VFB; Mounting Technology: Surface Mount; ComponentLink1Description: Manufacturer URL; ComponentLink1URL: http://www.linear.com/; ComponentLink2Description: Datasheet; ComponentLink2URL: http://cds.linear.com/docs/en/datasheet/60112fc.pdf; ComponentLink3Description: Package Specification; ComponentLink3URL: http://cds.linear.com/docs/en/packaging/05081610_G_SO8.pdf
footprint LT-S8-8_N (SOIC, 8-Leads, Body 4.9x3.9mm, Pitch 1.27mm, IPC Medium Density)
footprint LT-S8-8_L (SOIC, 8-Leads, Body 4.9x3.9mm, Pitch 1.27mm, IPC High Density)
footprint LT-S8-8_M (SOIC, 8-Leads, Body 4.9x3.9mm, Pitch 1.27mm, IPC Low Density)
pins on every part: 4 V- (power), 8 V+ (power)
part A pins: 1 OUT A (out), 2 -IN A (in), 3 +IN A (in)
part B pins: 5 +IN B (in), 6 -IN B (in), 7 OUT B (out)

## LT6011IS8#TRPBF
designator U?
Dual Channel, Micropower, Precision Operational Amplifier, RRO, 0.33 MHz Typical GBW, 0.09 V/us Typical SR, 2.4 to 40 V, 8-Pin SOIC (S8-8), Industrial, Pb-Free, Reel; Linear Technology Part Number: LT6011; Manufacturer: Linear Technology; PartNumber: LT6011IS8#TRPBF; Channels (#): 2; GBW (MHz) Typical: 0.33; Is (mA) Typical: 0.135; SR (V/us) Typical: 0.09; Vos (mV) Guaranteed: 0.06; Vos (mV) Typical: 0.02; Vs Max (V): 40; Vs Min (V): 2.4; DatasheetVersion: Rev. C; PackageVersion: Rev G; PackageReference: LT-S8-8; PackageDescription: 8-Pin Plastic Small Outline, Body 4.9 x 3.9 mm, Pitch 1.27 mm; Supplier 1: Digi-Key; Supplier Part Number 1: LT6011IS8#TRPBF-ND; Packing: Reel; RoHS: Pb-Free; Type: VFB; Mounting Technology: Surface Mount; ComponentLink1Description: Manufacturer URL; ComponentLink1URL: http://www.linear.com/; ComponentLink2Description: Datasheet; ComponentLink2URL: http://cds.linear.com/docs/en/datasheet/60112fc.pdf; ComponentLink3Description: Package Specification; ComponentLink3URL: http://cds.linear.com/docs/en/packaging/05081610_G_SO8.pdf
footprint LT-S8-8_N (SOIC, 8-Leads, Body 4.9x3.9mm, Pitch 1.27mm, IPC Medium Density)
footprint LT-S8-8_L (SOIC, 8-Leads, Body 4.9x3.9mm, Pitch 1.27mm, IPC High Density)
footprint LT-S8-8_M (SOIC, 8-Leads, Body 4.9x3.9mm, Pitch 1.27mm, IPC Low Density)
pins on every part: 4 V- (power), 8 V+ (power)
part A pins: 1 OUT A (out), 2 -IN A (in), 3 +IN A (in)
part B pins: 5 +IN B (in), 6 -IN B (in), 7 OUT B (out)

## LT6012ACGN
designator U?
Quad Channel, Micropower, Precision Operational Amplifier, RRO, 0.33 MHz Typical GBW, 0.09 V/us Typical SR, 2.4 to 40 V, 16-Pin SOP (GN-16), Commercial; Linear Technology Part Number: LT6012; Manufacturer: Linear Technology; PartNumber: LT6012ACGN; Channels (#): 4; GBW (MHz) Typical: 0.33; Is (mA) Typical: 0.135; SR (V/us) Typical: 0.09; Vos (mV) Guaranteed: 0.06; Vos (mV) Typical: 0.02; Vs Max (V): 40; Vs Min (V): 2.4; DatasheetVersion: Rev. C; PackageVersion: Rev B; PackageReference: LT-GN-16; PackageDescription: 16-Lead Plastic SSOP, Body 4.9 x 3.9 mm, Pitch 0.635 mm; Supplier 1: Digi-Key; Supplier Part Number 1: LT6012ACGN-ND; Supplier 2: Newark; Supplier Part Number 2: 57M9016; Type: VFB; Mounting Technology: Surface Mount; ComponentLink1Description: Manufacturer URL; ComponentLink1URL: http://www.linear.com/; ComponentLink2Description: Datasheet; ComponentLink2URL: http://cds.linear.com/docs/en/datasheet/60112fc.pdf; ComponentLink3Description: Package Specification; ComponentLink3URL: http://cds.linear.com/docs/en/packaging/05081641_B_GN16.pdf
footprint LT-GN-16_N (SOP, 16-Leads, Body 4.9x3.9mm, Pitch 0.635mm, IPC Medium Density)
footprint LT-GN-16_L (SOP, 16-Leads, Body 4.9x3.9mm, Pitch 0.635mm, IPC High Density)
footprint LT-GN-16_M (SOP, 16-Leads, Body 4.9x3.9mm, Pitch 0.635mm, IPC Low Density)
part A pins: 1 OUT A (out), 2 -IN A (in), 3 +IN A (in)
part B pins: 5 +IN B (in), 6 -IN B (in), 7 OUT B (out)
part C pins: 10 OUT C (out), 11 -IN C (in), 12 +IN C (in)
part D pins: 14 +IN D (in), 15 -IN D (in), 16 OUT D (out)
part E pins: 4 V+ (power), 8 NC, 9 NC, 13 V- (power)

## LT6012ACGN#PBF
designator U?
Quad Channel, Micropower, Precision Operational Amplifier, RRO, 0.33 MHz Typical GBW, 0.09 V/us Typical SR, 2.4 to 40 V, 16-Pin SOP (GN-16), Commercial, Pb-Free; Linear Technology Part Number: LT6012; Manufacturer: Linear Technology; PartNumber: LT6012ACGN#PBF; Channels (#): 4; GBW (MHz) Typical: 0.33; Is (mA) Typical: 0.135; SR (V/us) Typical: 0.09; Vos (mV) Guaranteed: 0.06; Vos (mV) Typical: 0.02; Vs Max (V): 40; Vs Min (V): 2.4; DatasheetVersion: Rev. C; PackageVersion: Rev B; PackageReference: LT-GN-16; PackageDescription: 16-Lead Plastic SSOP, Body 4.9 x 3.9 mm, Pitch 0.635 mm; Supplier 1: Digi-Key; Supplier Part Number 1: LT6012ACGN#PBF-ND; Supplier 2: Newark; Supplier Part Number 2: 57M9017; RoHS: Pb-Free; Type: VFB; Mounting Technology: Surface Mount; ComponentLink1Description: Manufacturer URL; ComponentLink1URL: http://www.linear.com/; ComponentLink2Description: Datasheet; ComponentLink2URL: http://cds.linear.com/docs/en/datasheet/60112fc.pdf; ComponentLink3Description: Package Specification; ComponentLink3URL: http://cds.linear.com/docs/en/packaging/05081641_B_GN16.pdf
footprint LT-GN-16_N (SOP, 16-Leads, Body 4.9x3.9mm, Pitch 0.635mm, IPC Medium Density)
footprint LT-GN-16_L (SOP, 16-Leads, Body 4.9x3.9mm, Pitch 0.635mm, IPC High Density)
footprint LT-GN-16_M (SOP, 16-Leads, Body 4.9x3.9mm, Pitch 0.635mm, IPC Low Density)
part A pins: 1 OUT A (out), 2 -IN A (in), 3 +IN A (in)
part B pins: 5 +IN B (in), 6 -IN B (in), 7 OUT B (out)
part C pins: 10 OUT C (out), 11 -IN C (in), 12 +IN C (in)
part D pins: 14 +IN D (in), 15 -IN D (in), 16 OUT D (out)
part E pins: 4 V+ (power), 8 NC, 9 NC, 13 V- (power)

## LT6012ACGN#TR
designator U?
Quad Channel, Micropower, Precision Operational Amplifier, RRO, 0.33 MHz Typical GBW, 0.09 V/us Typical SR, 2.4 to 40 V, 16-Pin SOP (GN-16), Commercial, Reel; Linear Technology Part Number: LT6012; Manufacturer: Linear Technology; PartNumber: LT6012ACGN#TR; Channels (#): 4; GBW (MHz) Typical: 0.33; Is (mA) Typical: 0.135; SR (V/us) Typical: 0.09; Vos (mV) Guaranteed: 0.06; Vos (mV) Typical: 0.02; Vs Max (V): 40; Vs Min (V): 2.4; DatasheetVersion: Rev. C; PackageVersion: Rev B; PackageReference: LT-GN-16; PackageDescription: 16-Lead Plastic SSOP, Body 4.9 x 3.9 mm, Pitch 0.635 mm; Supplier 1: Digi-Key; Supplier Part Number 1: LT6012ACGN#TR-ND; Packing: Reel; Type: VFB; Mounting Technology: Surface Mount; ComponentLink1Description: Manufacturer URL; ComponentLink1URL: http://www.linear.com/; ComponentLink2Description: Datasheet; ComponentLink2URL: http://cds.linear.com/docs/en/datasheet/60112fc.pdf; ComponentLink3Description: Package Specification; ComponentLink3URL: http://cds.linear.com/docs/en/packaging/05081641_B_GN16.pdf
footprint LT-GN-16_N (SOP, 16-Leads, Body 4.9x3.9mm, Pitch 0.635mm, IPC Medium Density)
footprint LT-GN-16_L (SOP, 16-Leads, Body 4.9x3.9mm, Pitch 0.635mm, IPC High Density)
footprint LT-GN-16_M (SOP, 16-Leads, Body 4.9x3.9mm, Pitch 0.635mm, IPC Low Density)
part A pins: 1 OUT A (out), 2 -IN A (in), 3 +IN A (in)
part B pins: 5 +IN B (in), 6 -IN B (in), 7 OUT B (out)
part C pins: 10 OUT C (out), 11 -IN C (in), 12 +IN C (in)
part D pins: 14 +IN D (in), 15 -IN D (in), 16 OUT D (out)
part E pins: 4 V+ (power), 8 NC, 9 NC, 13 V- (power)

## LT6012ACGN#TRPBF
designator U?
Quad Channel, Micropower, Precision Operational Amplifier, RRO, 0.33 MHz Typical GBW, 0.09 V/us Typical SR, 2.4 to 40 V, 16-Pin SOP (GN-16), Commercial, Pb-Free, Reel; Linear Technology Part Number: LT6012; Manufacturer: Linear Technology; PartNumber: LT6012ACGN#TRPBF; Channels (#): 4; GBW (MHz) Typical: 0.33; Is (mA) Typical: 0.135; SR (V/us) Typical: 0.09; Vos (mV) Guaranteed: 0.06; Vos (mV) Typical: 0.02; Vs Max (V): 40; Vs Min (V): 2.4; DatasheetVersion: Rev. C; PackageVersion: Rev B; PackageReference: LT-GN-16; PackageDescription: 16-Lead Plastic SSOP, Body 4.9 x 3.9 mm, Pitch 0.635 mm; Supplier 1: Digi-Key; Supplier Part Number 1: LT6012ACGN#TRPBF-ND; Packing: Reel; RoHS: Pb-Free; Type: VFB; Mounting Technology: Surface Mount; ComponentLink1Description: Manufacturer URL; ComponentLink1URL: http://www.linear.com/; ComponentLink2Description: Datasheet; ComponentLink2URL: http://cds.linear.com/docs/en/datasheet/60112fc.pdf; ComponentLink3Description: Package Specification; ComponentLink3URL: http://cds.linear.com/docs/en/packaging/05081641_B_GN16.pdf
footprint LT-GN-16_N (SOP, 16-Leads, Body 4.9x3.9mm, Pitch 0.635mm, IPC Medium Density)
footprint LT-GN-16_L (SOP, 16-Leads, Body 4.9x3.9mm, Pitch 0.635mm, IPC High Density)
footprint LT-GN-16_M (SOP, 16-Leads, Body 4.9x3.9mm, Pitch 0.635mm, IPC Low Density)
part A pins: 1 OUT A (out), 2 -IN A (in), 3 +IN A (in)
part B pins: 5 +IN B (in), 6 -IN B (in), 7 OUT B (out)
part C pins: 10 OUT C (out), 11 -IN C (in), 12 +IN C (in)
part D pins: 14 +IN D (in), 15 -IN D (in), 16 OUT D (out)
part E pins: 4 V+ (power), 8 NC, 9 NC, 13 V- (power)

## LT6012ACS
designator U?
Quad Channel, Micropower, Precision Operational Amplifier, RRO, 0.33 MHz Typical GBW, 0.09 V/us Typical SR, 2.4 to 40 V, 14-Pin SOIC (S-14), Commercial; Linear Technology Part Number: LT6012; Manufacturer: Linear Technology; PartNumber: LT6012ACS; Channels (#): 4; GBW (MHz) Typical: 0.33; Is (mA) Typical: 0.135; SR (V/us) Typical: 0.09; Vos (mV) Guaranteed: 0.06; Vos (mV) Typical: 0.02; Vs Max (V): 40; Vs Min (V): 2.4; DatasheetVersion: Rev. C; PackageVersion: Rev G; PackageReference: LT-S-14; PackageDescription: 14-Lead Plastic Small Outline, Body 8.65 x 3.90 mm, Pitch 1.27 mm; Supplier 1: Digi-Key; Supplier Part Number 1: LT6012ACS-ND; Type: VFB; Mounting Technology: Surface Mount; ComponentLink1Description: Manufacturer URL; ComponentLink1URL: http://www.linear.com/; ComponentLink2Description: Datasheet; ComponentLink2URL: http://cds.linear.com/docs/en/datasheet/60112fc.pdf; ComponentLink3Description: Package Specification; ComponentLink3URL: http://cds.linear.com/docs/en/packaging/05081610_G_S14.pdf
footprint LT-S-14_N (SOIC, 14-Leads, Body 8.65x3.90mm, Pitch 1.27mm, IPC Medium Density)
footprint LT-S-14_L (SOIC, 14-Leads, Body 8.65x3.90mm, Pitch 1.27mm, IPC High Density)
footprint LT-S-14_M (SOIC, 14-Leads, Body 8.65x3.90mm, Pitch 1.27mm, IPC Low Density)
pins on every part: 4 V+ (power), 11 V- (power)
part A pins: 1 OUT A (out), 2 -IN A (in), 3 +IN A (in)
part B pins: 5 +IN B (in), 6 -IN B (in), 7 OUT B (out)
part C pins: 8 OUT C (out), 9 -IN C (in), 10 +IN C (in)
part D pins: 12 +IN D (in), 13 -IN D (in), 14 OUT D (out)

## LT6012ACS#PBF
designator U?
Quad Channel, Micropower, Precision Operational Amplifier, RRO, 0.33 MHz Typical GBW, 0.09 V/us Typical SR, 2.4 to 40 V, 14-Pin SOIC (S-14), Commercial, Pb-Free; Linear Technology Part Number: LT6012; Manufacturer: Linear Technology; PartNumber: LT6012ACS#PBF; Channels (#): 4; GBW (MHz) Typical: 0.33; Is (mA) Typical: 0.135; SR (V/us) Typical: 0.09; Vos (mV) Guaranteed: 0.06; Vos (mV) Typical: 0.02; Vs Max (V): 40; Vs Min (V): 2.4; DatasheetVersion: Rev. C; PackageVersion: Rev G; PackageReference: LT-S-14; PackageDescription: 14-Lead Plastic Small Outline, Body 8.65 x 3.90 mm, Pitch 1.27 mm; Supplier 1: Digi-Key; Supplier Part Number 1: LT6012ACS#PBF-ND; Supplier 2: Farnell; Supplier Part Number 2: 1330742; Supplier 3: Newark; Supplier Part Number 3: 57M9021; RoHS: Pb-Free; Type: VFB; Mounting Technology: Surface Mount; ComponentLink1Description: Manufacturer URL; ComponentLink1URL: http://www.linear.com/; ComponentLink2Description: Datasheet; ComponentLink2URL: http://cds.linear.com/docs/en/datasheet/60112fc.pdf; ComponentLink3Description: Package Specification; ComponentLink3URL: http://cds.linear.com/docs/en/packaging/05081610_G_S14.pdf
footprint LT-S-14_N (SOIC, 14-Leads, Body 8.65x3.90mm, Pitch 1.27mm, IPC Medium Density)
footprint LT-S-14_L (SOIC, 14-Leads, Body 8.65x3.90mm, Pitch 1.27mm, IPC High Density)
footprint LT-S-14_M (SOIC, 14-Leads, Body 8.65x3.90mm, Pitch 1.27mm, IPC Low Density)
pins on every part: 4 V+ (power), 11 V- (power)
part A pins: 1 OUT A (out), 2 -IN A (in), 3 +IN A (in)
part B pins: 5 +IN B (in), 6 -IN B (in), 7 OUT B (out)
part C pins: 8 OUT C (out), 9 -IN C (in), 10 +IN C (in)
part D pins: 12 +IN D (in), 13 -IN D (in), 14 OUT D (out)

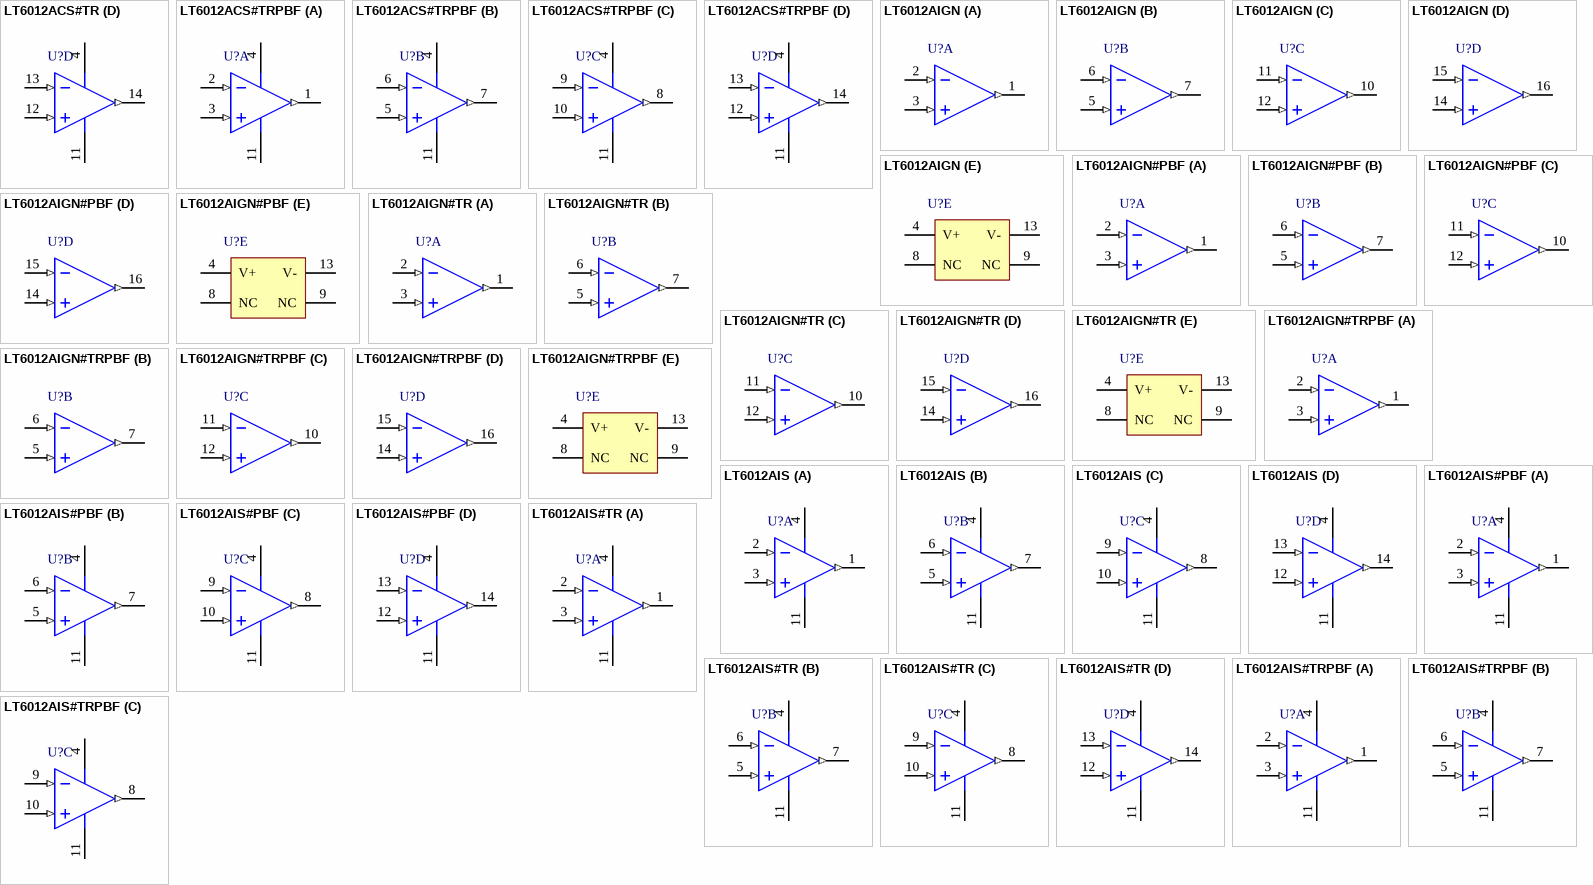
[diagram p11: symbols LT6012ACS#TR to LT6012AIS#TRPBF]

## LT6012ACS#TR
designator U?
Quad Channel, Micropower, Precision Operational Amplifier, RRO, 0.33 MHz Typical GBW, 0.09 V/us Typical SR, 2.4 to 40 V, 14-Pin SOIC (S-14), Commercial, Reel; Linear Technology Part Number: LT6012; Manufacturer: Linear Technology; PartNumber: LT6012ACS#TR; Channels (#): 4; GBW (MHz) Typical: 0.33; Is (mA) Typical: 0.135; SR (V/us) Typical: 0.09; Vos (mV) Guaranteed: 0.06; Vos (mV) Typical: 0.02; Vs Max (V): 40; Vs Min (V): 2.4; DatasheetVersion: Rev. C; PackageVersion: Rev G; PackageReference: LT-S-14; PackageDescription: 14-Lead Plastic Small Outline, Body 8.65 x 3.90 mm, Pitch 1.27 mm; Supplier 1: Digi-Key; Supplier Part Number 1: LT6012ACS#TR-ND; Packing: Reel; Type: VFB; Mounting Technology: Surface Mount; ComponentLink1Description: Manufacturer URL; ComponentLink1URL: http://www.linear.com/; ComponentLink2Description: Datasheet; ComponentLink2URL: http://cds.linear.com/docs/en/datasheet/60112fc.pdf; ComponentLink3Description: Package Specification; ComponentLink3URL: http://cds.linear.com/docs/en/packaging/05081610_G_S14.pdf
footprint LT-S-14_N (SOIC, 14-Leads, Body 8.65x3.90mm, Pitch 1.27mm, IPC Medium Density)
footprint LT-S-14_L (SOIC, 14-Leads, Body 8.65x3.90mm, Pitch 1.27mm, IPC High Density)
footprint LT-S-14_M (SOIC, 14-Leads, Body 8.65x3.90mm, Pitch 1.27mm, IPC Low Density)
pins on every part: 4 V+ (power), 11 V- (power)
part A pins: 1 OUT A (out), 2 -IN A (in), 3 +IN A (in)
part B pins: 5 +IN B (in), 6 -IN B (in), 7 OUT B (out)
part C pins: 8 OUT C (out), 9 -IN C (in), 10 +IN C (in)
part D pins: 12 +IN D (in), 13 -IN D (in), 14 OUT D (out)

## LT6012ACS#TRPBF
designator U?
Quad Channel, Micropower, Precision Operational Amplifier, RRO, 0.33 MHz Typical GBW, 0.09 V/us Typical SR, 2.4 to 40 V, 14-Pin SOIC (S-14), Commercial, Pb-Free, Reel; Linear Technology Part Number: LT6012; Manufacturer: Linear Technology; PartNumber: LT6012ACS#TRPBF; Channels (#): 4; GBW (MHz) Typical: 0.33; Is (mA) Typical: 0.135; SR (V/us) Typical: 0.09; Vos (mV) Guaranteed: 0.06; Vos (mV) Typical: 0.02; Vs Max (V): 40; Vs Min (V): 2.4; DatasheetVersion: Rev. C; PackageVersion: Rev G; PackageReference: LT-S-14; PackageDescription: 14-Lead Plastic Small Outline, Body 8.65 x 3.90 mm, Pitch 1.27 mm; Supplier 1: Digi-Key; Supplier Part Number 1: LT6012ACS#TRPBF-ND; Packing: Reel; RoHS: Pb-Free; Type: VFB; Mounting Technology: Surface Mount; ComponentLink1Description: Manufacturer URL; ComponentLink1URL: http://www.linear.com/; ComponentLink2Description: Datasheet; ComponentLink2URL: http://cds.linear.com/docs/en/datasheet/60112fc.pdf; ComponentLink3Description: Package Specification; ComponentLink3URL: http://cds.linear.com/docs/en/packaging/05081610_G_S14.pdf
footprint LT-S-14_N (SOIC, 14-Leads, Body 8.65x3.90mm, Pitch 1.27mm, IPC Medium Density)
footprint LT-S-14_L (SOIC, 14-Leads, Body 8.65x3.90mm, Pitch 1.27mm, IPC High Density)
footprint LT-S-14_M (SOIC, 14-Leads, Body 8.65x3.90mm, Pitch 1.27mm, IPC Low Density)
pins on every part: 4 V+ (power), 11 V- (power)
part A pins: 1 OUT A (out), 2 -IN A (in), 3 +IN A (in)
part B pins: 5 +IN B (in), 6 -IN B (in), 7 OUT B (out)
part C pins: 8 OUT C (out), 9 -IN C (in), 10 +IN C (in)
part D pins: 12 +IN D (in), 13 -IN D (in), 14 OUT D (out)

## LT6012AIGN
designator U?
Quad Channel, Micropower, Precision Operational Amplifier, RRO, 0.33 MHz Typical GBW, 0.09 V/us Typical SR, 2.4 to 40 V, 16-Pin SOP (GN-16), Industrial; Linear Technology Part Number: LT6012; Manufacturer: Linear Technology; PartNumber: LT6012AIGN; Channels (#): 4; GBW (MHz) Typical: 0.33; Is (mA) Typical: 0.135; SR (V/us) Typical: 0.09; Vos (mV) Guaranteed: 0.06; Vos (mV) Typical: 0.02; Vs Max (V): 40; Vs Min (V): 2.4; DatasheetVersion: Rev. C; PackageVersion: Rev B; PackageReference: LT-GN-16; PackageDescription: 16-Lead Plastic SSOP, Body 4.9 x 3.9 mm, Pitch 0.635 mm; Supplier 1: Digi-Key; Supplier Part Number 1: LT6012AIGN-ND; Type: VFB; Mounting Technology: Surface Mount; ComponentLink1Description: Manufacturer URL; ComponentLink1URL: http://www.linear.com/; ComponentLink2Description: Datasheet; ComponentLink2URL: http://cds.linear.com/docs/en/datasheet/60112fc.pdf; ComponentLink3Description: Package Specification; ComponentLink3URL: http://cds.linear.com/docs/en/packaging/05081641_B_GN16.pdf
footprint LT-GN-16_N (SOP, 16-Leads, Body 4.9x3.9mm, Pitch 0.635mm, IPC Medium Density)
footprint LT-GN-16_L (SOP, 16-Leads, Body 4.9x3.9mm, Pitch 0.635mm, IPC High Density)
footprint LT-GN-16_M (SOP, 16-Leads, Body 4.9x3.9mm, Pitch 0.635mm, IPC Low Density)
part A pins: 1 OUT A (out), 2 -IN A (in), 3 +IN A (in)
part B pins: 5 +IN B (in), 6 -IN B (in), 7 OUT B (out)
part C pins: 10 OUT C (out), 11 -IN C (in), 12 +IN C (in)
part D pins: 14 +IN D (in), 15 -IN D (in), 16 OUT D (out)
part E pins: 4 V+ (power), 8 NC, 9 NC, 13 V- (power)

## LT6012AIGN#PBF
designator U?
Quad Channel, Micropower, Precision Operational Amplifier, RRO, 0.33 MHz Typical GBW, 0.09 V/us Typical SR, 2.4 to 40 V, 16-Pin SOP (GN-16), Industrial, Pb-Free; Linear Technology Part Number: LT6012; Manufacturer: Linear Technology; PartNumber: LT6012AIGN#PBF; Channels (#): 4; GBW (MHz) Typical: 0.33; Is (mA) Typical: 0.135; SR (V/us) Typical: 0.09; Vos (mV) Guaranteed: 0.06; Vos (mV) Typical: 0.02; Vs Max (V): 40; Vs Min (V): 2.4; DatasheetVersion: Rev. C; PackageVersion: Rev B; PackageReference: LT-GN-16; PackageDescription: 16-Lead Plastic SSOP, Body 4.9 x 3.9 mm, Pitch 0.635 mm; Supplier 1: Digi-Key; Supplier Part Number 1: LT6012AIGN#PBF-ND; RoHS: Pb-Free; Type: VFB; Mounting Technology: Surface Mount; ComponentLink1Description: Manufacturer URL; ComponentLink1URL: http://www.linear.com/; ComponentLink2Description: Datasheet; ComponentLink2URL: http://cds.linear.com/docs/en/datasheet/60112fc.pdf; ComponentLink3Description: Package Specification; ComponentLink3URL: http://cds.linear.com/docs/en/packaging/05081641_B_GN16.pdf
footprint LT-GN-16_N (SOP, 16-Leads, Body 4.9x3.9mm, Pitch 0.635mm, IPC Medium Density)
footprint LT-GN-16_L (SOP, 16-Leads, Body 4.9x3.9mm, Pitch 0.635mm, IPC High Density)
footprint LT-GN-16_M (SOP, 16-Leads, Body 4.9x3.9mm, Pitch 0.635mm, IPC Low Density)
part A pins: 1 OUT A (out), 2 -IN A (in), 3 +IN A (in)
part B pins: 5 +IN B (in), 6 -IN B (in), 7 OUT B (out)
part C pins: 10 OUT C (out), 11 -IN C (in), 12 +IN C (in)
part D pins: 14 +IN D (in), 15 -IN D (in), 16 OUT D (out)
part E pins: 4 V+ (power), 8 NC, 9 NC, 13 V- (power)